# Altium integrated library TI Power Management LDO Controller.IntLib: 89 symbols (part 3 of 3)
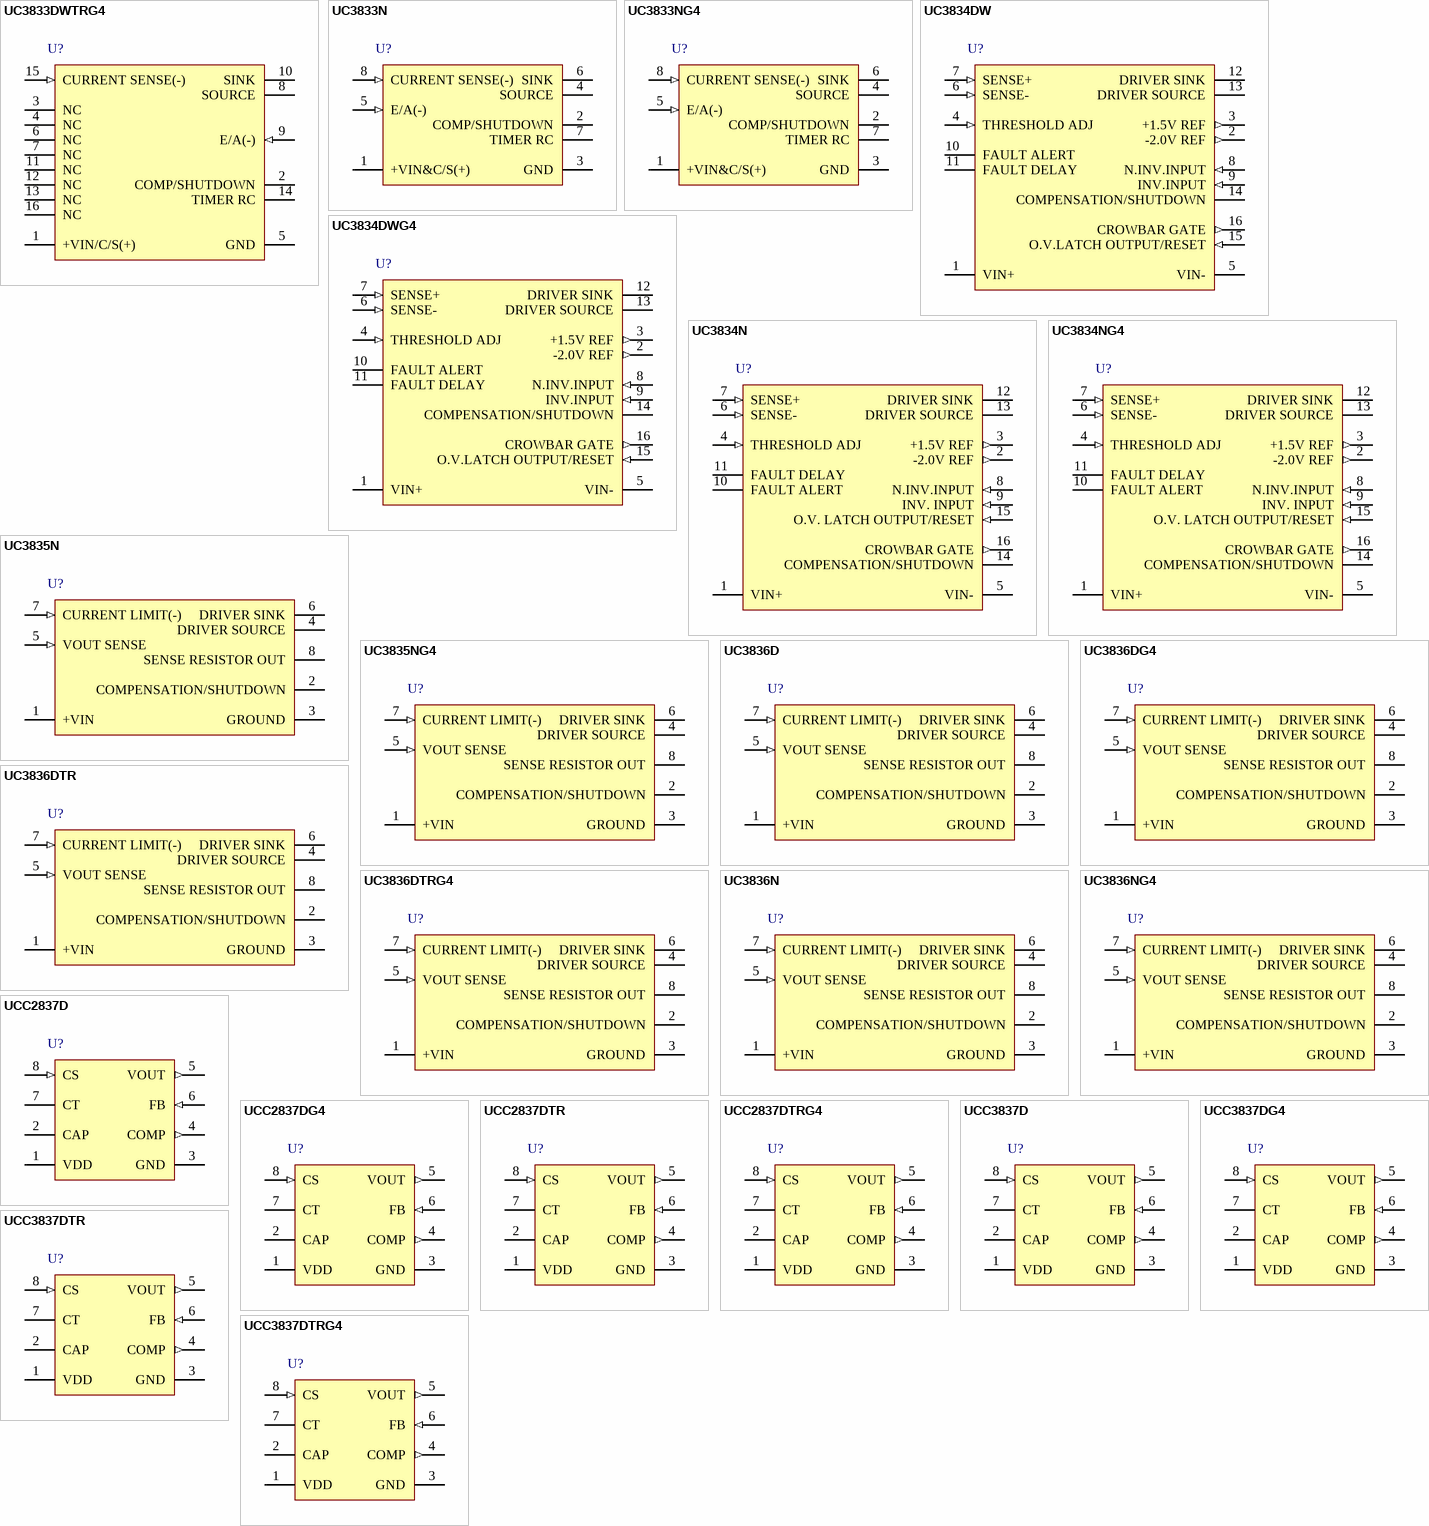
[diagram p6: symbols UC3833DWTRG4 to UCC3837DTRG4]

## UC3836D
designator U?
High Efficiency Regulator Controller, 2 % Tolerance, 6 to 40 V, 0 to 70 degC, 8-pin SOIC (D), Green (RoHS & no Sb/Br); PartNumber: UC3836D; Manufacturer: Texas Instruments; Iq(Typ)(mA): 3.7; SubFamily: LDO Controller; Tolerance(%): 2; Vin(Max)(V): 40; Vin(Min)(V): 6; Vout Adj(Max)(V): 35; Vout Adj(Min)(V): 2.5; DatasheetVersion: SLUS383; PackageVersion: revM, Jun-2011; PackageReference: D8; PackageDescription: 8-Pin Plastic Small Outline Integrated Circuit, 4.9 x 3.9 mm, Pitch 1.27 mm Pitch; Supplier 1: Digi-Key; Supplier Part Number 1: 296-2524-5-ND; Supplier 2: Newark; Supplier Part Number 2: 77C3281; Supplier 3: Mouser; Supplier Part Number 3: 595-UC3836D; Mounting Technology: Surface Mount; Code_JEDEC: MS-012AA; ComponentLink1Description: Datasheet; ComponentLink1URL: http://www.ti.com/general/docs/lit/getliterature.tsp?genericPartNumber=UC3836&fileType=pdf
footprint D8_N (SOIC, 8-Leads, Body 4.9x3.9mm, Pitch 1.27mm, IPC Medium Density)
footprint D8_L (SOIC, 8-Leads, Body 4.9x3.9mm, Pitch 1.27mm, IPC High Density)
footprint D8_M (SOIC, 8-Leads, Body 4.9x3.9mm, Pitch 1.27mm, IPC Low Density)
pins: 1 +VIN (power), 2 COMPENSATION/SHUTDOWN, 3 GROUND (power), 4 DRIVER SOURCE, 5 VOUT SENSE (in), 6 DRIVER SINK, 7 CURRENT LIMIT(-) (in), 8 SENSE RESISTOR OUT

## UC3836DG4
designator U?
High Efficiency Regulator Controller, 2 % Tolerance, 6 to 40 V, 0 to 70 degC, 8-pin SOIC (D), Green (RoHS & no Sb/Br); PartNumber: UC3836DG4; Manufacturer: Texas Instruments; Iq(Typ)(mA): 3.7; SubFamily: LDO Controller; Tolerance(%): 2; Vin(Max)(V): 40; Vin(Min)(V): 6; Vout Adj(Max)(V): 35; Vout Adj(Min)(V): 2.5; DatasheetVersion: SLUS383; PackageVersion: revM, Jun-2011; PackageReference: D8; PackageDescription: 8-Pin Plastic Small Outline Integrated Circuit, 4.9 x 3.9 mm, Pitch 1.27 mm Pitch; Supplier 1: Digi-Key; Supplier Part Number 1: UC3836DG4-ND; Supplier 2: Newark; Supplier Part Number 2: 70K6015; Supplier 3: Mouser; Supplier Part Number 3: 595-UC3836DG4; Mounting Technology: Surface Mount; Code_JEDEC: MS-012AA; ComponentLink1Description: Datasheet; ComponentLink1URL: http://www.ti.com/general/docs/lit/getliterature.tsp?genericPartNumber=UC3836&fileType=pdf
footprint D8_N (SOIC, 8-Leads, Body 4.9x3.9mm, Pitch 1.27mm, IPC Medium Density)
footprint D8_L (SOIC, 8-Leads, Body 4.9x3.9mm, Pitch 1.27mm, IPC High Density)
footprint D8_M (SOIC, 8-Leads, Body 4.9x3.9mm, Pitch 1.27mm, IPC Low Density)
pins: 1 +VIN (power), 2 COMPENSATION/SHUTDOWN, 3 GROUND (power), 4 DRIVER SOURCE, 5 VOUT SENSE (in), 6 DRIVER SINK, 7 CURRENT LIMIT(-) (in), 8 SENSE RESISTOR OUT

## UC3836DTR
designator U?
High Efficiency Regulator Controller, 2 % Tolerance, 6 to 40 V, 0 to 70 degC, 8-pin SOIC (D), Green (RoHS & no Sb/Br); PartNumber: UC3836DTR; Manufacturer: Texas Instruments; Iq(Typ)(mA): 3.7; SubFamily: LDO Controller; Tolerance(%): 2; Vin(Max)(V): 40; Vin(Min)(V): 6; Vout Adj(Max)(V): 35; Vout Adj(Min)(V): 2.5; DatasheetVersion: SLUS383; PackageVersion: revM, Jun-2011; PackageReference: D8; PackageDescription: 8-Pin Plastic Small Outline Integrated Circuit, 4.9 x 3.9 mm, Pitch 1.27 mm Pitch; Supplier 1: Digi-Key; Supplier Part Number 1: UC3836DTR-ND; Supplier 2: Newark; Supplier Part Number 2: 77C3282; Supplier 3: Mouser; Supplier Part Number 3: 595-UC3836DTR; Mounting Technology: Surface Mount; Code_JEDEC: MS-012AA; ComponentLink1Description: Datasheet; ComponentLink1URL: http://www.ti.com/general/docs/lit/getliterature.tsp?genericPartNumber=UC3836&fileType=pdf
footprint D8_N (SOIC, 8-Leads, Body 4.9x3.9mm, Pitch 1.27mm, IPC Medium Density)
footprint D8_L (SOIC, 8-Leads, Body 4.9x3.9mm, Pitch 1.27mm, IPC High Density)
footprint D8_M (SOIC, 8-Leads, Body 4.9x3.9mm, Pitch 1.27mm, IPC Low Density)
pins: 1 +VIN (power), 2 COMPENSATION/SHUTDOWN, 3 GROUND (power), 4 DRIVER SOURCE, 5 VOUT SENSE (in), 6 DRIVER SINK, 7 CURRENT LIMIT(-) (in), 8 SENSE RESISTOR OUT

## UC3836DTRG4
designator U?
High Efficiency Regulator Controller, 2 % Tolerance, 6 to 40 V, 0 to 70 degC, 8-pin SOIC (D), Green (RoHS & no Sb/Br); PartNumber: UC3836DTRG4; Manufacturer: Texas Instruments; Iq(Typ)(mA): 3.7; SubFamily: LDO Controller; Tolerance(%): 2; Vin(Max)(V): 40; Vin(Min)(V): 6; Vout Adj(Max)(V): 35; Vout Adj(Min)(V): 2.5; DatasheetVersion: SLUS383; PackageVersion: revM, Jun-2011; PackageReference: D8; PackageDescription: 8-Pin Plastic Small Outline Integrated Circuit, 4.9 x 3.9 mm, Pitch 1.27 mm Pitch; Supplier 1: Digi-Key; Supplier Part Number 1: UC3836DTRG4-ND; Supplier 2: Newark; Supplier Part Number 2: 54K2326; Supplier 3: Mouser; Supplier Part Number 3: 595-UC3836DTRG4; Mounting Technology: Surface Mount; Code_JEDEC: MS-012AA; ComponentLink1Description: Datasheet; ComponentLink1URL: http://www.ti.com/general/docs/lit/getliterature.tsp?genericPartNumber=UC3836&fileType=pdf
footprint D8_N (SOIC, 8-Leads, Body 4.9x3.9mm, Pitch 1.27mm, IPC Medium Density)
footprint D8_L (SOIC, 8-Leads, Body 4.9x3.9mm, Pitch 1.27mm, IPC High Density)
footprint D8_M (SOIC, 8-Leads, Body 4.9x3.9mm, Pitch 1.27mm, IPC Low Density)
pins: 1 +VIN (power), 2 COMPENSATION/SHUTDOWN, 3 GROUND (power), 4 DRIVER SOURCE, 5 VOUT SENSE (in), 6 DRIVER SINK, 7 CURRENT LIMIT(-) (in), 8 SENSE RESISTOR OUT

## UC3836N
designator U?
High Efficiency Regulator Controller, 2 % Tolerance, 6 to 40 V, 0 to 70 degC, 8-pin PDIP (P), Green (RoHS & no Sb/Br); PartNumber: UC3836N; Manufacturer: Texas Instruments; Iq(Typ)(mA): 3.7; SubFamily: LDO Controller; Tolerance(%): 2; Vin(Max)(V): 40; Vin(Min)(V): 6; Vout Adj(Max)(V): 35; Vout Adj(Min)(V): 2.5; DatasheetVersion: SLUS383; PackageVersion: revE, Apr-2010; PackageReference: P8; PackageDescription: 8-Pin Plastic Dual-In-Line Package, Row Spacing 7.62 mm, Pitch 2.54 mm; Supplier 1: Digi-Key; Supplier Part Number 1: 296-11276-5-ND; Supplier 2: Newark; Supplier Part Number 2: 77C3283; Supplier 3: Mouser; Supplier Part Number 3: 595-UC3836N; Mounting Technology: Through Hole; Code_JEDEC: MS-001-BA; ComponentLink1Description: Datasheet; ComponentLink1URL: http://www.ti.com/general/docs/lit/getliterature.tsp?genericPartNumber=UC3836&fileType=pdf
footprint P8 (DIP, 8-Leads, Row Spacing 7.62mm, Pitch 2.54mm, Body 9.6x6.4mm)
pins: 1 +VIN (power), 2 COMPENSATION/SHUTDOWN, 3 GROUND (power), 4 DRIVER SOURCE, 5 VOUT SENSE (in), 6 DRIVER SINK, 7 CURRENT LIMIT(-) (in), 8 SENSE RESISTOR OUT

## UC3836NG4
designator U?
High Efficiency Regulator Controller, 2 % Tolerance, 6 to 40 V, 0 to 70 degC, 8-pin PDIP (P), Green (RoHS & no Sb/Br); PartNumber: UC3836NG4; Manufacturer: Texas Instruments; Iq(Typ)(mA): 3.7; SubFamily: LDO Controller; Tolerance(%): 2; Vin(Max)(V): 40; Vin(Min)(V): 6; Vout Adj(Max)(V): 35; Vout Adj(Min)(V): 2.5; DatasheetVersion: SLUS383; PackageVersion: revE, Apr-2010; PackageReference: P8; PackageDescription: 8-Pin Plastic Dual-In-Line Package, Row Spacing 7.62 mm, Pitch 2.54 mm; Supplier 1: Digi-Key; Supplier Part Number 1: UC3836NG4-ND; Supplier 2: Newark; Supplier Part Number 2: 85K1827; Supplier 3: Mouser; Supplier Part Number 3: 595-UC3836NG4; Mounting Technology: Through Hole; Code_JEDEC: MS-001-BA; ComponentLink1Description: Datasheet; ComponentLink1URL: http://www.ti.com/general/docs/lit/getliterature.tsp?genericPartNumber=UC3836&fileType=pdf
footprint P8 (DIP, 8-Leads, Row Spacing 7.62mm, Pitch 2.54mm, Body 9.6x6.4mm)
pins: 1 +VIN (power), 2 COMPENSATION/SHUTDOWN, 3 GROUND (power), 4 DRIVER SOURCE, 5 VOUT SENSE (in), 6 DRIVER SINK, 7 CURRENT LIMIT(-) (in), 8 SENSE RESISTOR OUT

## UCC2837D
designator U?
N-FET Linear Regulator Controller, 1 % Tolerance, 3 to 12 V, -40 to 85 degC, 8-pin SOIC (D), Green (RoHS & no Sb/Br); PartNumber: UCC2837D; Manufacturer: Texas Instruments; Iq(Typ)(mA): 1.2; SubFamily: LDO Controller; Tolerance(%): 1; Vin(Max)(V): 12; Vin(Min)(V): 3; Vout Adj(Max)(V): 9; Vout Adj(Min)(V): 1.5; DatasheetVersion: SLUS228A; PackageVersion: revM, Jun-2011; PackageReference: D8; PackageDescription: 8-Pin Plastic Small Outline Integrated Circuit, 4.9 x 3.9 mm, Pitch 1.27 mm Pitch; Supplier 1: Digi-Key; Supplier Part Number 1: 296-2403-5-ND; Supplier 2: Newark; Supplier Part Number 2: 77C2150; Supplier 3: Mouser; Supplier Part Number 3: 595-UCC2837D; Mounting Technology: Surface Mount; Code_JEDEC: MS-012AA; ComponentLink1Description: Datasheet; ComponentLink1URL: http://www.ti.com/general/docs/lit/getliterature.tsp?genericPartNumber=UCC2837&fileType=pdf
footprint D8_N (SOIC, 8-Leads, Body 4.9x3.9mm, Pitch 1.27mm, IPC Medium Density)
footprint D8_L (SOIC, 8-Leads, Body 4.9x3.9mm, Pitch 1.27mm, IPC High Density)
footprint D8_M (SOIC, 8-Leads, Body 4.9x3.9mm, Pitch 1.27mm, IPC Low Density)
pins: 1 VDD (power) "The system input voltage is connected to this point. VDD must be above 3V. VDD also acts as one side of the Current Sense Amplifier and Comparator.", 2 CAP "The output of the charge pump circuit. A capacitor is connected between this pin and GND to provide a floating bias voltage for an N-Channel MOSFET gate drive. A minimum of a 0.01uF ceramic capacitor is recommended. CAP can (See Datasheet)", 3 GND (power) "Ground reference for the device. For accurate output voltage regulation, GND should be referenced to the output load ground.", 4 COMP (out) "The output of the transconductance error amplifier and current sense amplifier. Used for compensating the small signal characteristics of the voltage loop (and current loop when Current Sense Amplifier is active in over (See Datasheet)", 5 VOUT (out) "This pin directly drives the gate of the external N-MOSFET pass element. The typical output impedance of this pin is 6.5k ohm.", 6 FB (in) "The inverting terminal of the voltage error amplifier, used to feedback the output voltage for comparison with the internal reference voltage. The nominal DC operating voltage at this pin is 1.5V", 7 CT "The input to the duty cycle timer circuit. A capacitor is connected from this pin to GND, setting the maximum ON time of the over current protection circuits. See the Application Section for programming instructions.", 8 CS (in) "The negative current sense input signal. This pin should be connected through a low noise path to the low side of the current sense resistor."

## UCC2837DG4
designator U?
N-FET Linear Regulator Controller, 1 % Tolerance, 3 to 12 V, -40 to 85 degC, 8-pin SOIC (D), Green (RoHS & no Sb/Br); PartNumber: UCC2837DG4; Manufacturer: Texas Instruments; Iq(Typ)(mA): 1.2; SubFamily: LDO Controller; Tolerance(%): 1; Vin(Max)(V): 12; Vin(Min)(V): 3; Vout Adj(Max)(V): 9; Vout Adj(Min)(V): 1.5; DatasheetVersion: SLUS228A; PackageVersion: revM, Jun-2011; PackageReference: D8; PackageDescription: 8-Pin Plastic Small Outline Integrated Circuit, 4.9 x 3.9 mm, Pitch 1.27 mm Pitch; Supplier 1: Digi-Key; Supplier Part Number 1: UCC2837DG4-ND; Supplier 2: Newark; Supplier Part Number 2: 81K4481; Supplier 3: Mouser; Supplier Part Number 3: 595-UCC2837DG4; Mounting Technology: Surface Mount; Code_JEDEC: MS-012AA; ComponentLink1Description: Datasheet; ComponentLink1URL: http://www.ti.com/general/docs/lit/getliterature.tsp?genericPartNumber=UCC2837&fileType=pdf
footprint D8_N (SOIC, 8-Leads, Body 4.9x3.9mm, Pitch 1.27mm, IPC Medium Density)
footprint D8_L (SOIC, 8-Leads, Body 4.9x3.9mm, Pitch 1.27mm, IPC High Density)
footprint D8_M (SOIC, 8-Leads, Body 4.9x3.9mm, Pitch 1.27mm, IPC Low Density)
pins: 1 VDD (power) "The system input voltage is connected to this point. VDD must be above 3V. VDD also acts as one side of the Current Sense Amplifier and Comparator.", 2 CAP "The output of the charge pump circuit. A capacitor is connected between this pin and GND to provide a floating bias voltage for an N-Channel MOSFET gate drive. A minimum of a 0.01uF ceramic capacitor is recommended. CAP can (See Datasheet)", 3 GND (power) "Ground reference for the device. For accurate output voltage regulation, GND should be referenced to the output load ground.", 4 COMP (out) "The output of the transconductance error amplifier and current sense amplifier. Used for compensating the small signal characteristics of the voltage loop (and current loop when Current Sense Amplifier is active in over (See Datasheet)", 5 VOUT (out) "This pin directly drives the gate of the external N-MOSFET pass element. The typical output impedance of this pin is 6.5k ohm.", 6 FB (in) "The inverting terminal of the voltage error amplifier, used to feedback the output voltage for comparison with the internal reference voltage. The nominal DC operating voltage at this pin is 1.5V", 7 CT "The input to the duty cycle timer circuit. A capacitor is connected from this pin to GND, setting the maximum ON time of the over current protection circuits. See the Application Section for programming instructions.", 8 CS (in) "The negative current sense input signal. This pin should be connected through a low noise path to the low side of the current sense resistor."

## UCC2837DTR
designator U?
N-FET Linear Regulator Controller, 1 % Tolerance, 3 to 12 V, -40 to 85 degC, 8-pin SOIC (D), Green (RoHS & no Sb/Br); PartNumber: UCC2837DTR; Manufacturer: Texas Instruments; Iq(Typ)(mA): 1.2; SubFamily: LDO Controller; Tolerance(%): 1; Vin(Max)(V): 12; Vin(Min)(V): 3; Vout Adj(Max)(V): 9; Vout Adj(Min)(V): 1.5; DatasheetVersion: SLUS228A; PackageVersion: revM, Jun-2011; PackageReference: D8; PackageDescription: 8-Pin Plastic Small Outline Integrated Circuit, 4.9 x 3.9 mm, Pitch 1.27 mm Pitch; Supplier 1: Digi-Key; Supplier Part Number 1: UCC2837DTR-ND; Supplier 2: Newark; Supplier Part Number 2: 77C2151; Supplier 3: Mouser; Supplier Part Number 3: 595-UCC2837DTR; Mounting Technology: Surface Mount; Code_JEDEC: MS-012AA; ComponentLink1Description: Datasheet; ComponentLink1URL: http://www.ti.com/general/docs/lit/getliterature.tsp?genericPartNumber=UCC2837&fileType=pdf
footprint D8_N (SOIC, 8-Leads, Body 4.9x3.9mm, Pitch 1.27mm, IPC Medium Density)
footprint D8_L (SOIC, 8-Leads, Body 4.9x3.9mm, Pitch 1.27mm, IPC High Density)
footprint D8_M (SOIC, 8-Leads, Body 4.9x3.9mm, Pitch 1.27mm, IPC Low Density)
pins: 1 VDD (power) "The system input voltage is connected to this point. VDD must be above 3V. VDD also acts as one side of the Current Sense Amplifier and Comparator.", 2 CAP "The output of the charge pump circuit. A capacitor is connected between this pin and GND to provide a floating bias voltage for an N-Channel MOSFET gate drive. A minimum of a 0.01uF ceramic capacitor is recommended. CAP can (See Datasheet)", 3 GND (power) "Ground reference for the device. For accurate output voltage regulation, GND should be referenced to the output load ground.", 4 COMP (out) "The output of the transconductance error amplifier and current sense amplifier. Used for compensating the small signal characteristics of the voltage loop (and current loop when Current Sense Amplifier is active in over (See Datasheet)", 5 VOUT (out) "This pin directly drives the gate of the external N-MOSFET pass element. The typical output impedance of this pin is 6.5k ohm.", 6 FB (in) "The inverting terminal of the voltage error amplifier, used to feedback the output voltage for comparison with the internal reference voltage. The nominal DC operating voltage at this pin is 1.5V", 7 CT "The input to the duty cycle timer circuit. A capacitor is connected from this pin to GND, setting the maximum ON time of the over current protection circuits. See the Application Section for programming instructions.", 8 CS (in) "The negative current sense input signal. This pin should be connected through a low noise path to the low side of the current sense resistor."

## UCC2837DTRG4
designator U?
N-FET Linear Regulator Controller, 1 % Tolerance, 3 to 12 V, -40 to 85 degC, 8-pin SOIC (D), Green (RoHS & no Sb/Br); PartNumber: UCC2837DTRG4; Manufacturer: Texas Instruments; Iq(Typ)(mA): 1.2; SubFamily: LDO Controller; Tolerance(%): 1; Vin(Max)(V): 12; Vin(Min)(V): 3; Vout Adj(Max)(V): 9; Vout Adj(Min)(V): 1.5; DatasheetVersion: SLUS228A; PackageVersion: revM, Jun-2011; PackageReference: D8; PackageDescription: 8-Pin Plastic Small Outline Integrated Circuit, 4.9 x 3.9 mm, Pitch 1.27 mm Pitch; Supplier 1: Digi-Key; Supplier Part Number 1: UCC2837DTRG4-ND; Supplier 2: Newark; Supplier Part Number 2: 24K6306; Supplier 3: Mouser; Supplier Part Number 3: 595-UCC2837DTRG4; Mounting Technology: Surface Mount; Code_JEDEC: MS-012AA; ComponentLink1Description: Datasheet; ComponentLink1URL: http://www.ti.com/general/docs/lit/getliterature.tsp?genericPartNumber=UCC2837&fileType=pdf
footprint D8_N (SOIC, 8-Leads, Body 4.9x3.9mm, Pitch 1.27mm, IPC Medium Density)
footprint D8_L (SOIC, 8-Leads, Body 4.9x3.9mm, Pitch 1.27mm, IPC High Density)
footprint D8_M (SOIC, 8-Leads, Body 4.9x3.9mm, Pitch 1.27mm, IPC Low Density)
pins: 1 VDD (power) "The system input voltage is connected to this point. VDD must be above 3V. VDD also acts as one side of the Current Sense Amplifier and Comparator.", 2 CAP "The output of the charge pump circuit. A capacitor is connected between this pin and GND to provide a floating bias voltage for an N-Channel MOSFET gate drive. A minimum of a 0.01uF ceramic capacitor is recommended. CAP can (See Datasheet)", 3 GND (power) "Ground reference for the device. For accurate output voltage regulation, GND should be referenced to the output load ground.", 4 COMP (out) "The output of the transconductance error amplifier and current sense amplifier. Used for compensating the small signal characteristics of the voltage loop (and current loop when Current Sense Amplifier is active in over (See Datasheet)", 5 VOUT (out) "This pin directly drives the gate of the external N-MOSFET pass element. The typical output impedance of this pin is 6.5k ohm.", 6 FB (in) "The inverting terminal of the voltage error amplifier, used to feedback the output voltage for comparison with the internal reference voltage. The nominal DC operating voltage at this pin is 1.5V", 7 CT "The input to the duty cycle timer circuit. A capacitor is connected from this pin to GND, setting the maximum ON time of the over current protection circuits. See the Application Section for programming instructions.", 8 CS (in) "The negative current sense input signal. This pin should be connected through a low noise path to the low side of the current sense resistor."

## UCC3837D
designator U?
N-FET Linear Regulator Controller, 1 % Tolerance, 3 to 12 V, 0 to 70 degC, 8-pin SOIC (D), Green (RoHS & no Sb/Br); PartNumber: UCC3837D; Manufacturer: Texas Instruments; Iq(Typ)(mA): 1.2; SubFamily: LDO Controller; Tolerance(%): 1; Vin(Max)(V): 12; Vin(Min)(V): 3; Vout Adj(Max)(V): 9; Vout Adj(Min)(V): 1.5; DatasheetVersion: SLUS228A; PackageVersion: revM, Jun-2011; PackageReference: D8; PackageDescription: 8-Pin Plastic Small Outline Integrated Circuit, 4.9 x 3.9 mm, Pitch 1.27 mm Pitch; Supplier 1: Digi-Key; Supplier Part Number 1: 296-2548-5-ND; Supplier 2: Newark; Supplier Part Number 2: 77C2498; Supplier 3: Mouser; Supplier Part Number 3: 595-UCC3837D; Mounting Technology: Surface Mount; Code_JEDEC: MS-012AA; ComponentLink1Description: Datasheet; ComponentLink1URL: http://www.ti.com/general/docs/lit/getliterature.tsp?genericPartNumber=UCC3837&fileType=pdf
footprint D8_N (SOIC, 8-Leads, Body 4.9x3.9mm, Pitch 1.27mm, IPC Medium Density)
footprint D8_L (SOIC, 8-Leads, Body 4.9x3.9mm, Pitch 1.27mm, IPC High Density)
footprint D8_M (SOIC, 8-Leads, Body 4.9x3.9mm, Pitch 1.27mm, IPC Low Density)
pins: 1 VDD (power) "The system input voltage is connected to this point. VDD must be above 3V. VDD also acts as one side of the Current Sense Amplifier and Comparator.", 2 CAP "The output of the charge pump circuit. A capacitor is connected between this pin and GND to provide a floating bias voltage for an N-Channel MOSFET gate drive. A minimum of a 0.01µF ceramic capacitor is recommended. CAP can (See Datasheet)", 3 GND (power) "Ground reference for the device. For accurate output voltage regulation, GND should be referenced to the output load ground.", 4 COMP (out) "The output of the transconductance error amplifier and current sense amplifier. Used for compensating the small signal characteristics of the voltage loop (and current loop when Current Sense Amplifier is active in over (See Datasheet)", 5 VOUT (out) "This pin directly drives the gate of the external N-MOSFET pass element. The typical output impedance of this pin is 6.5k ohm.", 6 FB (in) "The inverting terminal of the voltage error amplifier, used to feedback the output voltage for comparison with the internal reference voltage. The nominal DC operating voltage at this pin is 1.5V", 7 CT "The input to the duty cycle timer circuit. A capacitor is connected from this pin to GND, setting the maximum ON time of the over current protection circuits. See the Application Section for programming instructions.", 8 CS (in) "The negative current sense input signal. This pin should be connected through a low noise path to the low side of the current sense resistor."

## UCC3837DG4
designator U?
N-FET Linear Regulator Controller, 1 % Tolerance, 3 to 12 V, 0 to 70 degC, 8-pin SOIC (D), Green (RoHS & no Sb/Br); PartNumber: UCC3837DG4; Manufacturer: Texas Instruments; Iq(Typ)(mA): 1.2; SubFamily: LDO Controller; Tolerance(%): 1; Vin(Max)(V): 12; Vin(Min)(V): 3; Vout Adj(Max)(V): 9; Vout Adj(Min)(V): 1.5; DatasheetVersion: SLUS228A; PackageVersion: revM, Jun-2011; PackageReference: D8; PackageDescription: 8-Pin Plastic Small Outline Integrated Circuit, 4.9 x 3.9 mm, Pitch 1.27 mm Pitch; Supplier 1: Digi-Key; Supplier Part Number 1: UCC3837DG4-ND; Supplier 2: Newark; Supplier Part Number 2: 41M6412; Supplier 3: Mouser; Supplier Part Number 3: 595-UCC3837DG4; Mounting Technology: Surface Mount; Code_JEDEC: MS-012AA; ComponentLink1Description: Datasheet; ComponentLink1URL: http://www.ti.com/general/docs/lit/getliterature.tsp?genericPartNumber=UCC3837&fileType=pdf
footprint D8_N (SOIC, 8-Leads, Body 4.9x3.9mm, Pitch 1.27mm, IPC Medium Density)
footprint D8_L (SOIC, 8-Leads, Body 4.9x3.9mm, Pitch 1.27mm, IPC High Density)
footprint D8_M (SOIC, 8-Leads, Body 4.9x3.9mm, Pitch 1.27mm, IPC Low Density)
pins: 1 VDD (power) "The system input voltage is connected to this point. VDD must be above 3V. VDD also acts as one side of the Current Sense Amplifier and Comparator.", 2 CAP "The output of the charge pump circuit. A capacitor is connected between this pin and GND to provide a floating bias voltage for an N-Channel MOSFET gate drive. A minimum of a 0.01µF ceramic capacitor is recommended. CAP can (See Datasheet)", 3 GND (power) "Ground reference for the device. For accurate output voltage regulation, GND should be referenced to the output load ground.", 4 COMP (out) "The output of the transconductance error amplifier and current sense amplifier. Used for compensating the small signal characteristics of the voltage loop (and current loop when Current Sense Amplifier is active in over (See Datasheet)", 5 VOUT (out) "This pin directly drives the gate of the external N-MOSFET pass element. The typical output impedance of this pin is 6.5k ohm.", 6 FB (in) "The inverting terminal of the voltage error amplifier, used to feedback the output voltage for comparison with the internal reference voltage. The nominal DC operating voltage at this pin is 1.5V", 7 CT "The input to the duty cycle timer circuit. A capacitor is connected from this pin to GND, setting the maximum ON time of the over current protection circuits. See the Application Section for programming instructions.", 8 CS (in) "The negative current sense input signal. This pin should be connected through a low noise path to the low side of the current sense resistor."

## UCC3837DTR
designator U?
N-FET Linear Regulator Controller, 1 % Tolerance, 3 to 12 V, 0 to 70 degC, 8-pin SOIC (D), Green (RoHS & no Sb/Br); PartNumber: UCC3837DTR; Manufacturer: Texas Instruments; Iq(Typ)(mA): 1.2; SubFamily: LDO Controller; Tolerance(%): 1; Vin(Max)(V): 12; Vin(Min)(V): 3; Vout Adj(Max)(V): 9; Vout Adj(Min)(V): 1.5; DatasheetVersion: SLUS228A; PackageVersion: revM, Jun-2011; PackageReference: D8; PackageDescription: 8-Pin Plastic Small Outline Integrated Circuit, 4.9 x 3.9 mm, Pitch 1.27 mm Pitch; Supplier 1: Digi-Key; Supplier Part Number 1: UCC3837DTR-ND; Supplier 2: Newark; Supplier Part Number 2: 77C2499; Supplier 3: Mouser; Supplier Part Number 3: 595-UCC3837DTR; Mounting Technology: Surface Mount; Code_JEDEC: MS-012AA; ComponentLink1Description: Datasheet; ComponentLink1URL: http://www.ti.com/general/docs/lit/getliterature.tsp?genericPartNumber=UCC3837&fileType=pdf
footprint D8_N (SOIC, 8-Leads, Body 4.9x3.9mm, Pitch 1.27mm, IPC Medium Density)
footprint D8_L (SOIC, 8-Leads, Body 4.9x3.9mm, Pitch 1.27mm, IPC High Density)
footprint D8_M (SOIC, 8-Leads, Body 4.9x3.9mm, Pitch 1.27mm, IPC Low Density)
pins: 1 VDD (power) "The system input voltage is connected to this point. VDD must be above 3V. VDD also acts as one side of the Current Sense Amplifier and Comparator.", 2 CAP "The output of the charge pump circuit. A capacitor is connected between this pin and GND to provide a floating bias voltage for an N-Channel MOSFET gate drive. A minimum of a 0.01µF ceramic capacitor is recommended. CAP can (See Datasheet)", 3 GND (power) "Ground reference for the device. For accurate output voltage regulation, GND should be referenced to the output load ground.", 4 COMP (out) "The output of the transconductance error amplifier and current sense amplifier. Used for compensating the small signal characteristics of the voltage loop (and current loop when Current Sense Amplifier is active in over (See Datasheet)", 5 VOUT (out) "This pin directly drives the gate of the external N-MOSFET pass element. The typical output impedance of this pin is 6.5k ohm.", 6 FB (in) "The inverting terminal of the voltage error amplifier, used to feedback the output voltage for comparison with the internal reference voltage. The nominal DC operating voltage at this pin is 1.5V", 7 CT "The input to the duty cycle timer circuit. A capacitor is connected from this pin to GND, setting the maximum ON time of the over current protection circuits. See the Application Section for programming instructions.", 8 CS (in) "The negative current sense input signal. This pin should be connected through a low noise path to the low side of the current sense resistor."

## UCC3837DTRG4
designator U?
N-FET Linear Regulator Controller, 1 % Tolerance, 3 to 12 V, 0 to 70 degC, 8-pin SOIC (D), Green (RoHS & no Sb/Br); PartNumber: UCC3837DTRG4; Manufacturer: Texas Instruments; Iq(Typ)(mA): 1.2; SubFamily: LDO Controller; Tolerance(%): 1; Vin(Max)(V): 12; Vin(Min)(V): 3; Vout Adj(Max)(V): 9; Vout Adj(Min)(V): 1.5; DatasheetVersion: SLUS228A; PackageVersion: revM, Jun-2011; PackageReference: D8; PackageDescription: 8-Pin Plastic Small Outline Integrated Circuit, 4.9 x 3.9 mm, Pitch 1.27 mm Pitch; Supplier 1: Digi-Key; Supplier Part Number 1: UCC3837DTRG4-ND; Supplier 2: Newark; Supplier Part Number 2: 24K6347; Supplier 3: Mouser; Supplier Part Number 3: 595-UCC3837DTRG4; Mounting Technology: Surface Mount; Code_JEDEC: MS-012AA; ComponentLink1Description: Datasheet; ComponentLink1URL: http://www.ti.com/general/docs/lit/getliterature.tsp?genericPartNumber=UCC3837&fileType=pdf
footprint D8_N (SOIC, 8-Leads, Body 4.9x3.9mm, Pitch 1.27mm, IPC Medium Density)
footprint D8_L (SOIC, 8-Leads, Body 4.9x3.9mm, Pitch 1.27mm, IPC High Density)
footprint D8_M (SOIC, 8-Leads, Body 4.9x3.9mm, Pitch 1.27mm, IPC Low Density)
pins: 1 VDD (power) "The system input voltage is connected to this point. VDD must be above 3V. VDD also acts as one side of the Current Sense Amplifier and Comparator.", 2 CAP "The output of the charge pump circuit. A capacitor is connected between this pin and GND to provide a floating bias voltage for an N-Channel MOSFET gate drive. A minimum of a 0.01µF ceramic capacitor is recommended. CAP can (See Datasheet)", 3 GND (power) "Ground reference for the device. For accurate output voltage regulation, GND should be referenced to the output load ground.", 4 COMP (out) "The output of the transconductance error amplifier and current sense amplifier. Used for compensating the small signal characteristics of the voltage loop (and current loop when Current Sense Amplifier is active in over (See Datasheet)", 5 VOUT (out) "This pin directly drives the gate of the external N-MOSFET pass element. The typical output impedance of this pin is 6.5k ohm.", 6 FB (in) "The inverting terminal of the voltage error amplifier, used to feedback the output voltage for comparison with the internal reference voltage. The nominal DC operating voltage at this pin is 1.5V", 7 CT "The input to the duty cycle timer circuit. A capacitor is connected from this pin to GND, setting the maximum ON time of the over current protection circuits. See the Application Section for programming instructions.", 8 CS (in) "The negative current sense input signal. This pin should be connected through a low noise path to the low side of the current sense resistor."

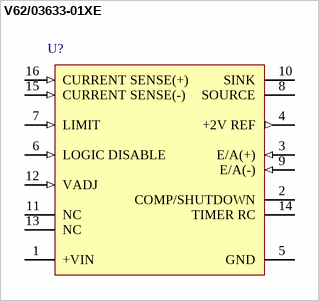
[diagram p4: symbol V62/03633-01XE]

## V62/03633-01XE
designator U?
Enhanced Product Precision Low Dropout Linear Controller, 1 % Tolerance, 4.5 to 36 V, -40 to 105 degC, 16-pin SOIC (DW), Green (RoHS & no Sb/Br); PartNumber: V62/03633-01XE; Manufacturer: Texas Instruments; Fixed Output Options(V): 2; Iq(Typ)(mA): 3.3; SubFamily: LDO Controller; Tolerance(%): 1; Vin(Max)(V): 36; Vin(Min)(V): 4.5; DatasheetVersion: SGLS147A; PackageVersion: revG, Jan-2011; PackageReference: DW16; PackageDescription: 16-Pin Small Outline Integrated Circuit, 10.3 x 7.5 mm, Pitch 1.27 mm Pitch; Supplier 1: Mouser; Supplier Part Number 1: 595-V62/03633-01XE; Mounting Technology: Surface Mount; Code_JEDEC: MS-013-AA; ComponentLink1Description: Datasheet; ComponentLink1URL: http://www.ti.com/general/docs/lit/getliterature.tsp?genericPartNumber=UC2832-EP&fileType=pdf
footprint DW16_N (SOIC, 16-Leads, Body 10.3x7.5mm, Pitch 1.27mm, IPC Medium Density)
footprint DW16_L (SOIC, 16-Leads, Body 10.3x7.5mm, Pitch 1.27mm, IPC High Density)
footprint DW16_M (SOIC, 16-Leads, Body 10.3x7.5mm, Pitch 1.27mm, IPC Low Density)
pins: 1 +VIN (power), 2 COMP/SHUTDOWN, 3 E/A(+) (in), 4 +2V REF (out), 5 GND (power), 6 LOGIC DISABLE (in), 7 LIMIT (in), 8 SOURCE, 9 E/A(-) (in), 10 SINK, 11 NC, 12 VADJ (in), 13 NC, 14 TIMER RC, 15 CURRENT SENSE(-) (in), 16 CURRENT SENSE(+) (in)